# EAGLE library part BOURNS_CAT16XXXJ4 (library travis)
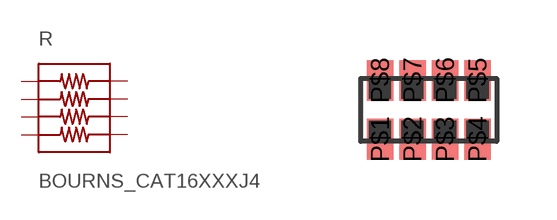
[diagram p4: symbol with the pads of BOURNS_CAT16-J4; footprint BOURNS_CAT16-J4]

Designator prefix R

## BOURNS_CAT16XXXJ4  [BOURNS_CAT16-J4]
P$1  P$1  pas
P$2  P$2  pas
P$3  P$3  pas
P$4  P$4  pas
P$5  P$5  pas
P$6  P$6  pas
P$7  P$7  pas
P$8  P$8  pas

## Footprint BOURNS_CAT16-J4 (pad centres in mm)
smd 0.66 x 1.016: P$1 -1.219,-0.737; P$2 -0.406,-0.737; P$3 0.406,-0.737; P$4 1.219,-0.737; P$5 1.219,0.737; P$6 0.406,0.737; P$7 -0.406,0.737; P$8 -1.219,0.737